# Altium footprint library ip_phone.PcbLib: 69 footprints (part 2 of 5)
Each footprint in its own frame and in the unit in brackets; x right, y up, seen from the top. Pads: shape width x height; smd on the part's side, far side on the other; paste and mask are expansions set on the pad; w line width, h text height; cw(c..) or ccw(c..) is an arc to the next point about the centre after c.
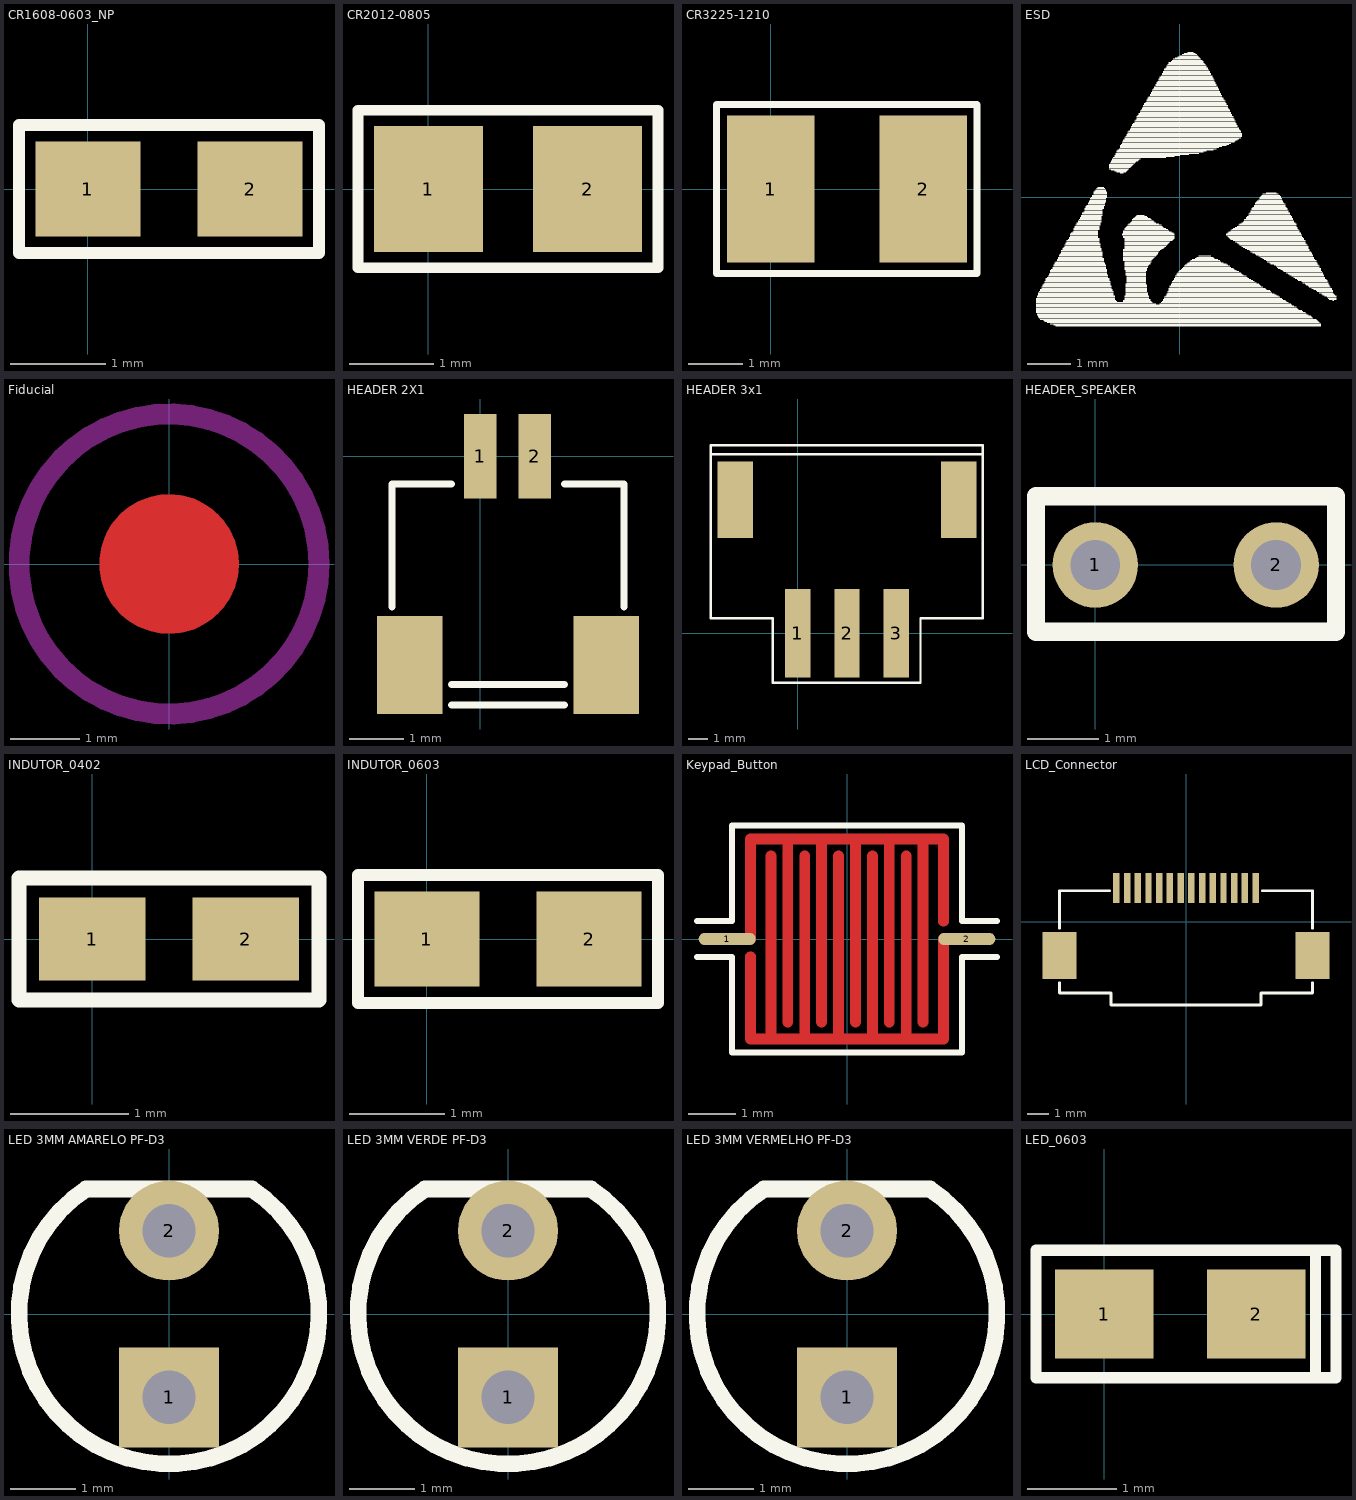
[diagram p1: the footprints below, top view; thin cyan lines are the x and y axes]

## CR1608-0603_NP [mm] "Chip Resistor; Body 1.6 x 0.8 mm (LxW typ)"
height 1.35
pads (2):
  rect 1.1x1 smd: 1(0,0) 2(1.7,0)
Top Overlay:
  lines w0.127: -0.721,-0.671 -0.721,0.671 2.421,0.671 2.421,-0.671 -0.721,-0.671

## CR2012-0805 [mm] "Chip Capacitor; Body 2.0 x 1.2 mm (LxW typ)"
height 1.1
pads (2):
  rect 1.3x1.5 smd: 1(0,0) 2(1.9,0)
Top Overlay:
  lines w0.127: -0.838,-0.94 2.738,-0.94 2.738,0.94 -0.838,0.94 -0.838,-0.94

## CR3225-1210 [mm] "Chip Capacitor; Body 3.2 x 2.5 mm (LxW typ)"
height 1.35
pads (2):
  rect 1.6x2.7 smd: 1(0,0) 2(2.8,0)
Top Overlay:
  lines w0.127: -0.991,-1.549 3.785,-1.549 3.785,1.549 -0.991,1.549 -0.991,-1.549

## ESD [mm]
Top Overlay:
  drawing of 457 lines, arcs and shapes, not listed

## Fiducial [mm] "Fiducial"
Top Layer:
  circle w1: c0,0 r0.5
Top Layer keep-out:
  circle w0.3: c0,0 r2.15
Top Paste:
  circle w1: c0,0 r0.5
Top Solder:
  circle w3.39: c0,0 r0.3

## HEADER 2X1 [mm]
pads (4):
  rect 0.6x1.55 smd: 1(0,0) 2(1,0)
  rect 1.2x1.8 smd: ""(-1.295,-3.835) ""(2.311,-3.835)
Top Overlay:
  lines w0.127: -1.626,-2.769 -1.626,-0.508 -0.533,-0.508 ; -0.533,-4.572 1.549,-4.572 ; -0.533,-4.191 1.549,-4.191 ; 1.549,-0.508 2.642,-0.508 2.642,-2.769

## HEADER 3x1 [mm]
pads (5):
  rect 1.3x4.5 smd: 1(0,0) 2(2.5,0) 3(5,0)
  rect 1.8x3.9 smd: ""(-3.2,6.8) ""(8.2,6.8)
Top Overlay:
  lines w0.127: -4.445,9.119 9.373,9.119 ; -4.445,0.76 -1.29,0.76 -1.29,-2.515 6.248,-2.515 6.248,0.76 9.423,0.76 9.423,9.576 -4.445,9.576 -4.445,0.76

## HEADER_SPEAKER [mm]
pads (2):
  round 1.2 hole 0.7: 1(0,0) 2(2.54,0)
Top Overlay:
  lines w0.254: -0.833,-0.937 3.381,-0.937 3.381,0.965 -0.833,0.965 -0.833,-0.937

## INDUTOR_0402 [mm]
pads (2):
  rect 0.9x0.7 smd: 1(0,0) 2(1.3,0)
Top Overlay:
  lines w0.127: -0.62,-0.518 1.92,-0.518 1.92,0.518 -0.62,0.518 -0.62,-0.518
3D body: height 0.25, standoff 0, extent 0.15,-0.25 1.15,0.25

## INDUTOR_0603 [mm]
pads (2):
  rect 1.1x1 smd: 1(0,0) 2(1.7,0)
Top Overlay:
  lines w0.127: -0.721,-0.671 -0.721,0.671 2.421,0.671 2.421,-0.671 -0.721,-0.671

## Keypad_Button [mm]
pads (2):
  oval 1.2x0.254 smd: 1(-2.519,0) 2(2.519,0)
Top Layer:
  lines w0.229: -2.032,-0.373 -2.032,-2.1 2.032,-2.1 2.032,0 ; -2.032,0 -2.032,2.1 2.032,2.1 2.032,0.373 ; -1.6,-2.1 -1.6,1.744 ; -1.245,-1.744 -1.245,2.1 ; -0.889,-2.1 -0.889,1.744 ; -0.533,-1.744 -0.533,2.1 ; -0.178,-2.1 -0.178,1.744 ; 0.178,-1.744 0.178,2.1 ; 0.533,-2.1 0.533,1.744 ; 0.889,-1.744 0.889,2.1 ; 1.245,-2.1 1.245,1.744 ; 1.6,-1.744 1.6,2.1
Top Overlay:
  lines w0.127: -3.154,-0.381 -2.418,-0.381 -2.418,-2.388 2.418,-2.388 2.418,-0.381 3.154,-0.381 ; -3.154,0.381 -2.418,0.381 -2.418,2.388 2.418,2.388 2.418,0.381 3.154,0.381
Top Solder:
  lines w0.432: -2.032,-0.373 -2.032,-2.1 2.032,-2.1 2.032,0 ; -2.032,0 -2.032,2.1 2.032,2.1 2.032,0.373 ; -1.6,-2.1 -1.6,1.702 ; -1.245,-1.702 -1.245,2.1 ; -0.889,-2.1 -0.889,1.702 ; -0.533,-1.702 -0.533,2.1 ; -0.178,-2.1 -0.178,1.702 ; 0.178,-1.702 0.178,2.1 ; 0.533,-2.1 0.533,1.702 ; 0.889,-1.702 0.889,2.1 ; 1.245,-2.1 1.245,1.702 ; 1.6,-1.702 1.6,2.1

## LCD_Connector [mm]
height 2
pads (16):
  rect 0.3x1.4 smd: 1(3.25,1.575) 2(2.75,1.575) 3(2.25,1.575) 4(1.75,1.575) 5(1.25,1.575) 6(0.75,1.575) 7(0.25,1.575) 8(-0.25,1.575) 9(-0.75,1.575) 10(-1.25,1.575) 11(-1.75,1.575) 12(-2.25,1.575) 13(-2.75,1.575) 14(-3.25,1.575)
  rect 1.6x2.2 smd: ""(-5.9,-1.575) ""(5.9,-1.575)
Top Overlay:
  lines w0.127: -5.9,-2.845 -5.9,-3.328 -3.5,-3.328 -3.5,-3.886 3.5,-3.886 3.5,-3.328 5.9,-3.328 5.9,-2.845 ; -5.9,-0.305 -5.9,1.448 -3.557,1.448 ; 3.557,1.448 5.9,1.448 5.9,-0.305

## LED 3MM AMARELO PF-D3 [mil]
pads (2):
  rect 60x60 hole 32: 1(0,-50)
  round 60 hole 32: 2(0,50)
Top Overlay:
  lines w10: -50.33,74.61 ccw(c0,0) 50.33,74.61 ; -50,75 50,75
3D body: height 448.82, standoff -120.32, extent -75,-74.29 77.65,61.7

## LED 3MM VERDE PF-D3 [mil]
pads (2):
  rect 60x60 hole 32: 1(0,-50)
  round 60 hole 32: 2(0,50)
Top Overlay:
  lines w10: -50.33,74.61 ccw(c0,0) 50.33,74.61 ; -50,75 50,75
3D body: height 448.82, standoff -120.32, extent -75,-74.29 77.65,61.7

## LED 3MM VERMELHO PF-D3 [mil]
pads (2):
  rect 60x60 hole 32: 1(0,-50)
  round 60 hole 32: 2(0,50)
Top Overlay:
  lines w10: -50.33,74.61 ccw(c0,0) 50.33,74.61 ; -50,75 50,75
3D body: height 448.82, standoff -120.32, extent -75,-74.29 77.65,61.7

## LED_0603 [mm] "LED 0603"
height 1
pads (2):
  rect 1.1x1 smd: 1(0,0) 2(1.7,0)
Top Overlay:
  lines w0.127: 2.362,-0.711 2.362,0.711 ; -0.762,-0.711 -0.762,0.711 2.591,0.711 2.591,-0.711 -0.762,-0.711